# EAGLE library part BQ21040 (library pepin)
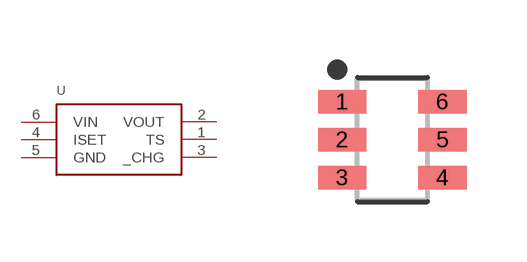
[diagram p7: symbol with the pads of SOT95P280X145-6; footprint SOT95P280X145-6]

Designator prefix U

## BQ21040SOT-23  [SOT95P280X145-6]
1  TS
2  VOUT  pwr
3  _CHG
4  ISET
5  GND  pwr
6  VIN  pwr

## Footprint SOT95P280X145-6 (pad centres in mm)
6-SOT23, 0.95 mm pitch, 2.80 mm span, 2.90 X 1.60 X 1.45 mm body 6-pin SOT23 package with 0.95 mm pitch, 2.80 mm span with body size 2.90 X 1.60 X 1.45 mm
smd 1.209 x 0.584: 1 -1.253,0.95; 2 -1.253,0; 3 -1.253,-0.95; 4 1.253,-0.95; 5 1.253,0; 6 1.253,0.95